# Altium footprint library SM_1206_JLEAD.PcbLib: 1 footprints
Each footprint in its own frame and in the unit in brackets; x right, y up, seen from the top. Pads: shape width x height; smd on the part's side, far side on the other; paste and mask are expansions set on the pad; w line width, h text height; cw(c..) or ccw(c..) is an arc to the next point about the centre after c.
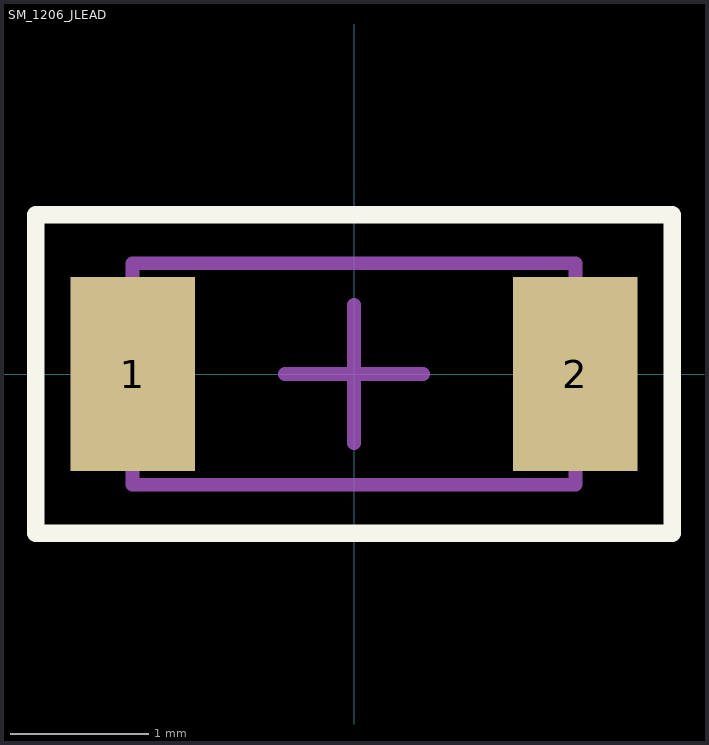
[diagram p0: the footprint, top view; thin cyan lines are the x and y axes]

## SM_1206_JLEAD [mm] "JLEAD 1206 Capacitor"
height 2.9
pads (2):
  rect 0.9x1.4 smd: 1(-1.6,0) 2(1.6,0)
Top Overlay:
  lines w0.127: -2.3,-1.15 -2.3,1.15 2.3,1.15 2.3,-1.15 -2.3,-1.15
Mechanical 13:
  lines w0.1: -1.6,-0.8 -1.6,0.8 1.6,0.8 1.6,-0.8 -1.6,-0.8
Mechanical 15:
  lines w0.05: -2.3,-1.15 2.3,-1.15 2.3,1.15 -2.3,1.15 -2.3,-1.15
  lines w0.1: -0.5,0 0.5,0 ; 0,-0.5 0,0.5
3D body: height 2.9, standoff 1.1, extent -1.025,-0.95 1.025,0.95
3D body: height 2.9, standoff 0, extent -1.6,-0.95 -1.55,0.95
3D body: height 2.9, standoff 0, extent 1.55,-0.95 1.6,0.95
3D body: height 0.11, standoff 0, extent -1.6,-0.95 -1.6,0.95
3D body: height 0.11, standoff 0, extent -1.6,-0.95 -0.6,0.95
3D body: height 0.11, standoff 0, extent 0.6,-0.95 1.6,0.95
3D body: height 2.9, standoff 1.1, extent -1.55,-0.95 -1.025,0.95
3D body: height 2.9, standoff 1.1, extent 1.025,-0.95 1.55,0.95